# Altium schematic symbol library SCH - OPAMP - ANALOG DEV ADA4891-1ARJZ RJ-5.SCHLIB: 1 symbol
Pins are listed as number, name and electrical type; pins without a type are passive.

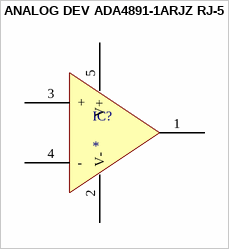
[diagram p0: symbol ANALOG DEV ADA4891-1ARJZ RJ-5]

## ANALOG DEV ADA4891-1ARJZ RJ-5
designator IC?
pins: 1 OUT, 2 V-, 3 +, 4 -, 5 V+